# Altium footprint library PCB - POWER INDUCTORS - TDK VLF403210MT.PCBLIB: 1 footprints
Each footprint in its own frame and in the unit in brackets; x right, y up, seen from the top. Pads: shape width x height; smd on the part's side, far side on the other; paste and mask are expansions set on the pad; w line width, h text height; cw(c..) or ccw(c..) is an arc to the next point about the centre after c.
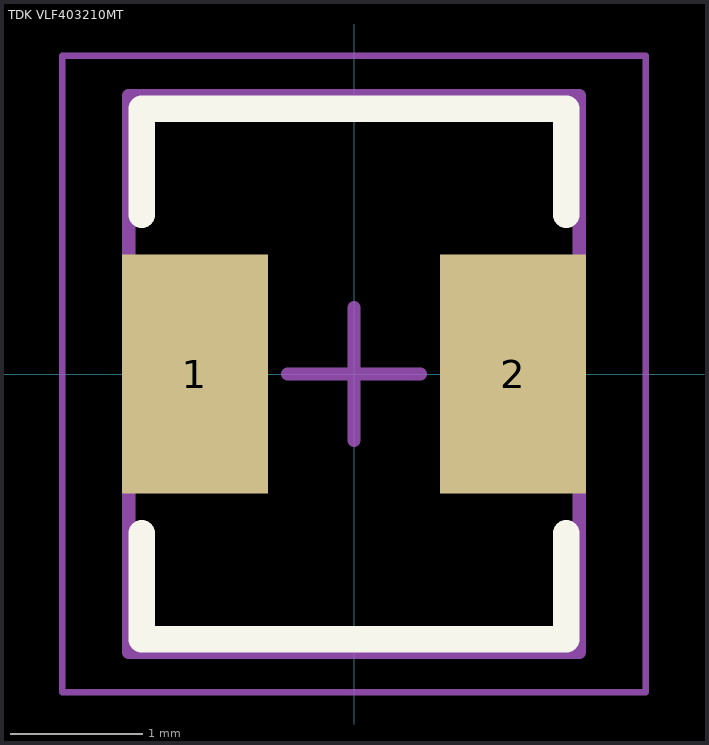
[diagram p0: the footprint, top view; thin cyan lines are the x and y axes]

## TDK VLF403210MT [mm] "Precision Wire Wound Inductor, 2-Leads, Body 3.20x4.00mm, IPC Medium Density"
height 1
pads (2):
  rect 1.1x1.8 smd: 1(-1.2,0) 2(1.2,0)
Top Overlay:
  lines w0.2: -1.6,-1.2 -1.6,-2 1.6,-2 1.6,-1.2 ; -1.6,1.2 -1.6,2 1.6,2 1.6,1.2
Mechanical 13:
  lines w0.1: -1.7,-2.1 1.7,-2.1 1.7,2.1 -1.7,2.1 -1.7,-2.1
Mechanical 15:
  lines w0.05: -2.2,-2.4 2.2,-2.4 2.2,2.4 -2.2,2.4 -2.2,-2.4
  lines w0.1: -0.5,0 0.5,0 ; 0,-0.5 0,0.5
3D body "VLF403210MT.STEP": height 1, standoff 0, extent -1.6,-2 1.6,2